# Altium footprint library WR-MJ.PcbLib: 1 footprints
Each footprint in its own frame and in the unit in brackets; x right, y up, seen from the top. Pads: shape width x height; smd on the part's side, far side on the other; paste and mask are expansions set on the pad; w line width, h text height; cw(c..) or ccw(c..) is an arc to the next point about the centre after c.
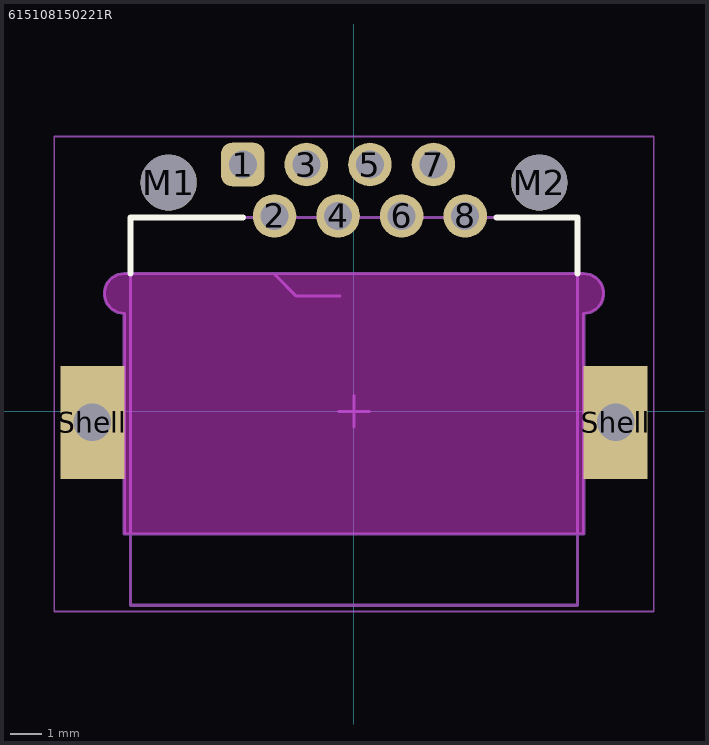
[diagram p0: the footprint, top view; thin cyan lines are the x and y axes]

## 615108150221R [mm] "WR MOD JACK RJ45 MID MOUNT"
height 10.9
pads (12):
  rrect50% 1.4x1.4 hole 0.9: 1(-3.57,7.925)
  round 1.4 hole 0.9: 2(-2.55,6.275) 3(-1.53,7.925) 4(-0.51,6.275) 5(0.51,7.925) 6(1.53,6.275) 7(2.55,7.925) 8(3.57,6.275)
  round 1.8 hole 1.8 unplated: M1(-5.95,7.345) M2(5.95,7.345)
  rect 2.05x3.63 / inner round 1.8 / far side round 1.8 hole 1.2: Shell(-8.4,-0.355) Shell(8.4,-0.355)
Top Overlay:
  lines w0.2: -7.175,4.425 -7.175,6.225 -3.575,6.225 ; 4.575,6.225 7.175,6.225 7.175,4.425
Top Paste:
  region: -9.425,1.46 -7.375,1.46 -7.375,-2.17 -9.425,-2.17
  region: 7.375,1.46 9.425,1.46 9.425,-2.17 7.375,-2.17
Keep-Out Layer:
  board cut-out: -7.375,-3.935 7.375,-3.935 7.375,3.145 7.502,3.145 7.738,3.242 7.918,3.422 8.015,3.658 8.015,3.912 7.918,4.148 7.738,4.328 7.502,4.425 7.375,4.425 -7.375,4.425 -7.502,4.425 -7.738,4.328 -7.918,4.148 -8.015,3.912 -8.015,3.658 -7.918,3.422 -7.738,3.242 -7.502,3.145 -7.375,3.145
Assembly Notes:
  lines w0.1: -7.175,4.425 7.175,4.425 ; -2.55,4.4 -1.85,3.7 -0.45,3.7 ; -7.375,-3.935 -7.375,3.145 cw(c-7.375,3.785) -7.375,4.425 7.375,4.425 cw(c7.375,3.785) 7.375,3.145 7.375,-3.935 -7.375,-3.935
  text "PCB Cutout" at -4.4,-0.615 h1.22
  text "PCB End" at -0.226,3.5 h0.5
Top Assembly:
  lines w0.1: -7.175,-6.225 7.175,-6.225 7.175,6.225 -7.175,6.225 -7.175,-6.225
Top Designator:
  text ".Designator" at -3.647,-0.357 h1
Top Courtyard:
  lines w0.05: -9.625,-6.425 9.625,-6.425 9.625,8.825 -9.625,8.825 -9.625,-6.425
Top Component Center:
  lines w0.1: -0.5,0 0.5,0 ; 0,-0.5 0,0.5
3D body "615108150221R.stp": height 7.4, standoff -3.25, extent -8.95,-6.225 8.95,8.168